# EAGLE library part MM74HC125N (library Fairchild_By_element14_Batch_1)
3-STATE Quad Buffers
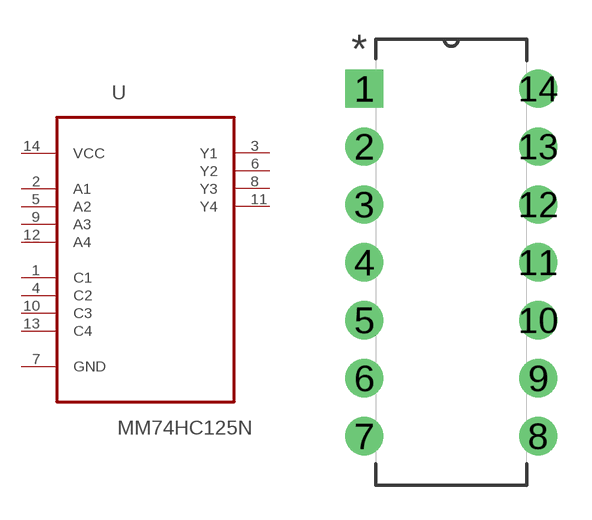
[diagram p242: symbol with the pads of DIP254P762X533-14; footprint DIP254P762X533-14]

Designator prefix U

## MM74HC125N (MPN: MM74HC125N; OC_FARNELL: 1013918; OC_NEWARK: 58K1941; PACKAGE: PDIP-14; SUPPLIER: Fairchild)  [DIP254P762X533-14]
1  C1  in
2  A1  in
3  Y1  out
4  C2  in
5  A2  in
6  Y2  out
7  GND  pas
8  Y3  out
9  A3  in
10  C3  in
11  Y4  out
12  A4  in
13  C4  in
14  VCC  pwr

## Footprint DIP254P762X533-14 (pad centres in mm)
drill 1.118 square: 1 -7.62,15.24
drill 1.118: 2 -7.62,12.7; 3 -7.62,10.16; 4 -7.62,7.62; 5 -7.62,5.08; 6 -7.62,2.54; 7 -7.62,0; 8 0,0; 9 0,2.54; 10 0,5.08; 11 0,7.62; 12 0,10.16; 13 0,12.7; 14 0,15.24